# Altium schematic symbol library TPS54360.Schlib: 1 symbol
Pins are listed as number, name and electrical type; pins without a type are passive.

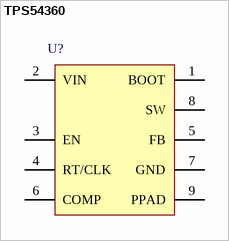
[diagram p0: symbol TPS54360]

## TPS54360
designator U?  (value not drawn)
SW REG, Buck, 4.5V to 60V
pins: 1 BOOT, 2 VIN, 3 EN, 4 RT/CLK, 5 FB, 6 COMP, 7 GND, 8 SW, 9 PPAD